# Altium schematic symbol library jlcpcb_2025_04_inductors_extended_0201.schlib: 459 symbols (part 5 of 9)
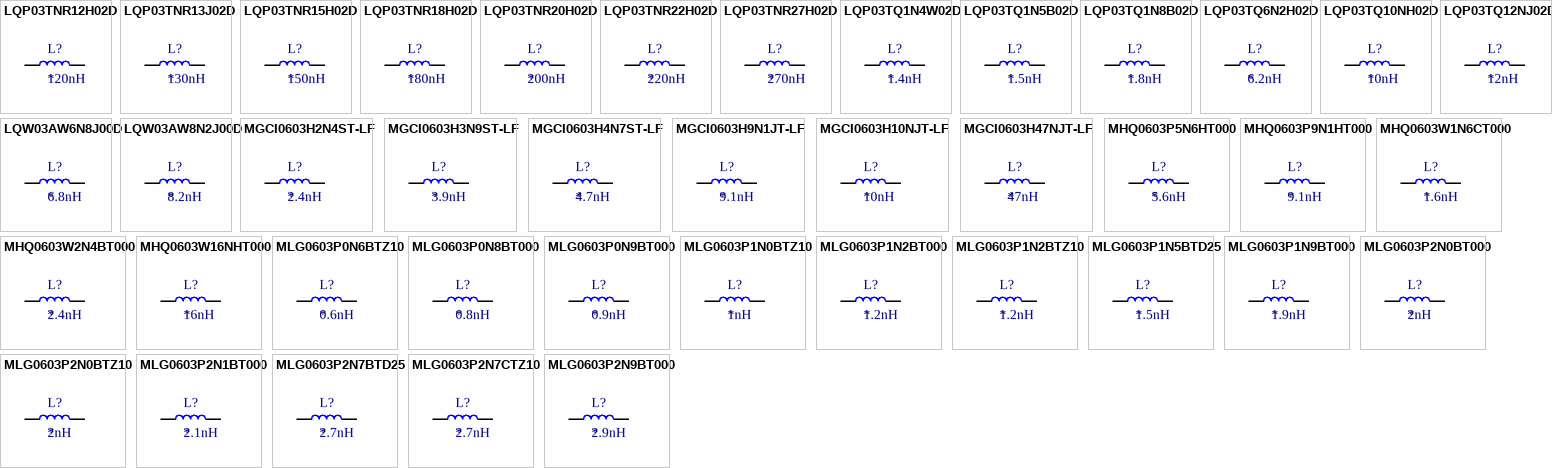
[diagram p15: symbols LQP03TNR12H02D to MLG0603P2N9BT000]

## MGCI0603H3N9ST-LF
designator L?  Inductance: 3.9nH
Inductor, 3.9nH, 450mΩ, 200mA, SMD 0201; Manufacturer: microgate; Manufacturer Part Number: MGCI0603H3N9ST-LF; Package Size: 0201; JLCPCB Basic Part: No; JLCPCB Part Number: C280973; Supplier 1: LCSC; Category: Inductors; Supplier Part Number 1: C280973; Rated Current: 200mA; DC Resistance: 450mΩ; RoHS: Yes; ComponentLink1Description: Datasheet; ComponentLink1URL: https://wmsc.lcsc.com/wmsc/upload/file/pdf/v2/lcsc/2304140030_microgate-MGCI0603H3N9ST-LF_C280973.pdf; ComponentLink2Description: JLCPCB Part URL; ComponentLink2URL: https://jlcpcb.com/partdetail/C280973; ComponentLink3Description: LCSC Part URL; ComponentLink3URL: https://lcsc.com/product-detail/Inductors-SMD_microgate-microgate-MGCI0603H3N9ST-LF_C280973.html
footprint IND-0201 (0201 (0603M) Inductor)
pins: 1, 2

## MGCI0603H4N7ST-LF
designator L?  Inductance: 4.7nH
Inductor, 4.7nH, SMD 0201; Manufacturer: microgate; Manufacturer Part Number: MGCI0603H4N7ST-LF; Package Size: 0201; JLCPCB Basic Part: No; JLCPCB Part Number: C280974; Supplier 1: LCSC; Category: Inductors; Supplier Part Number 1: C280974; RoHS: Yes; ComponentLink1Description: Datasheet; ComponentLink1URL: https://wmsc.lcsc.com/wmsc/upload/file/pdf/v2/lcsc/2304140030_microgate-MGCI0603H4N7ST-LF_C280974.pdf; ComponentLink2Description: JLCPCB Part URL; ComponentLink2URL: https://jlcpcb.com/partdetail/C280974; ComponentLink3Description: LCSC Part URL; ComponentLink3URL: https://lcsc.com/product-detail/Inductors-SMD_microgate-microgate-MGCI0603H4N7ST-LF_C280974.html
footprint IND-0201 (0201 (0603M) Inductor)
pins: 1, 2

## MGCI0603H9N1JT-LF
designator L?  Inductance: 9.1nH
Inductor, 9.1nH, ±5%, 800mΩ, 200mA, SMD 0201; Manufacturer: microgate; Manufacturer Part Number: MGCI0603H9N1JT-LF; Package Size: 0201; JLCPCB Basic Part: No; JLCPCB Part Number: C310869; Supplier 1: LCSC; Category: Inductors; Supplier Part Number 1: C310869; Tolerance: ±5%; Rated Current: 200mA; DC Resistance: 800mΩ; RoHS: Yes; ComponentLink1Description: Datasheet; ComponentLink1URL: https://wmsc.lcsc.com/wmsc/upload/file/pdf/v2/lcsc/2304140030_microgate-MGCI0603H9N1JT-LF_C310869.pdf; ComponentLink2Description: JLCPCB Part URL; ComponentLink2URL: https://jlcpcb.com/partdetail/C310869; ComponentLink3Description: LCSC Part URL; ComponentLink3URL: https://lcsc.com/product-detail/Inductors-SMD_microgate-microgate-MGCI0603H9N1JT-LF_C310869.html
footprint IND-0201 (0201 (0603M) Inductor)
pins: 1, 2

## MGCI0603H10NJT-LF
designator L?  Inductance: 10nH
Inductor, 10nH, ±5%, 800mΩ, 200mA, SMD 0201; Manufacturer: microgate; Manufacturer Part Number: MGCI0603H10NJT-LF; Package Size: 0201; JLCPCB Basic Part: No; JLCPCB Part Number: C486322; Supplier 1: LCSC; Category: Inductors; Supplier Part Number 1: C486322; Tolerance: ±5%; Rated Current: 200mA; DC Resistance: 800mΩ; RoHS: Yes; ComponentLink1Description: Datasheet; ComponentLink1URL: https://wmsc.lcsc.com/wmsc/upload/file/pdf/v2/lcsc/2304140030_microgate-MGCI0603H10NJT-LF_C486322.pdf; ComponentLink2Description: JLCPCB Part URL; ComponentLink2URL: https://jlcpcb.com/partdetail/C486322; ComponentLink3Description: LCSC Part URL; ComponentLink3URL: https://lcsc.com/product-detail/Inductors-SMD_microgate-microgate-MGCI0603H10NJT-LF_C486322.html
footprint IND-0201 (0201 (0603M) Inductor)
pins: 1, 2

## MGCI0603H47NJT-LF
designator L?  Inductance: 47nH
Inductor, 47nH, ±5%, 3.6Ω, 50mA, SMD 0201; Manufacturer: microgate; Manufacturer Part Number: MGCI0603H47NJT-LF; Package Size: 0201; JLCPCB Basic Part: No; JLCPCB Part Number: C310861; Supplier 1: LCSC; Category: Inductors; Supplier Part Number 1: C310861; Tolerance: ±5%; Rated Current: 50mA; DC Resistance: 3.6Ω; RoHS: Yes; ComponentLink1Description: Datasheet; ComponentLink1URL: https://wmsc.lcsc.com/wmsc/upload/file/pdf/v2/lcsc/2304140030_microgate-MGCI0603H47NJT-LF_C310861.pdf; ComponentLink2Description: JLCPCB Part URL; ComponentLink2URL: https://jlcpcb.com/partdetail/C310861; ComponentLink3Description: LCSC Part URL; ComponentLink3URL: https://lcsc.com/product-detail/Inductors-SMD_microgate-microgate-MGCI0603H47NJT-LF_C310861.html
footprint IND-0201 (0201 (0603M) Inductor)
pins: 1, 2

## MHQ0603P5N6HT000
designator L?  Inductance: 5.6nH
Inductor, 5.6nH, ±3%, 290mΩ, 350mA, SMD 0201; Manufacturer: TDK; Manufacturer Part Number: MHQ0603P5N6HT000; Self-Resonant Frequency: 5GHz; Q Factor: 16@500MHz; Package Size: 0201; JLCPCB Basic Part: No; JLCPCB Part Number: C2683197; Supplier 1: LCSC; Category: Inductors; Supplier Part Number 1: C2683197; Tolerance: ±3%; Rated Current: 350mA; DC Resistance: 290mΩ; RoHS: Yes; ComponentLink1Description: Datasheet; ComponentLink1URL: https://wmsc.lcsc.com/wmsc/upload/file/pdf/v2/lcsc/2106070403_TDK-MHQ0603P5N6HT000_C2683197.pdf; ComponentLink2Description: JLCPCB Part URL; ComponentLink2URL: https://jlcpcb.com/partdetail/C2683197; ComponentLink3Description: LCSC Part URL; ComponentLink3URL: https://lcsc.com/product-detail/Inductors-SMD_TDK-TDK-MHQ0603P5N6HT000_C2683197.html
footprint IND-0201 (0201 (0603M) Inductor)
pins: 1, 2

## MHQ0603P9N1HT000
designator L?  Inductance: 9.1nH
Inductor, 9.1nH, ±3%, 620mΩ, 250mA, SMD 0201; Manufacturer: TDK; Manufacturer Part Number: MHQ0603P9N1HT000; Self-Resonant Frequency: 3.8GHz; Q Factor: 16@500MHz; Package Size: 0201; JLCPCB Basic Part: No; JLCPCB Part Number: C2044892; Supplier 1: LCSC; Category: Inductors; Supplier Part Number 1: C2044892; Tolerance: ±3%; Rated Current: 250mA; DC Resistance: 620mΩ; RoHS: Yes; ComponentLink1Description: Datasheet; ComponentLink1URL: https://wmsc.lcsc.com/wmsc/upload/file/pdf/v2/lcsc/2304140030_TDK-MHQ0603P9N1HT000_C2044892.pdf; ComponentLink2Description: JLCPCB Part URL; ComponentLink2URL: https://jlcpcb.com/partdetail/C2044892; ComponentLink3Description: LCSC Part URL; ComponentLink3URL: https://lcsc.com/product-detail/Inductors-SMD_TDK-TDK-MHQ0603P9N1HT000_C2044892.html
footprint IND-0201 (0201 (0603M) Inductor)
pins: 1, 2

## MHQ0603W1N6CT000
designator L?  Inductance: 1.6nH
Inductor, 1.6nH, SMD 0201; Manufacturer: TDK; Manufacturer Part Number: MHQ0603W1N6CT000; Package Size: 0201; JLCPCB Basic Part: No; JLCPCB Part Number: C413905; Supplier 1: LCSC; Category: Inductors; Supplier Part Number 1: C413905; RoHS: Yes; ComponentLink1Description: Datasheet; ComponentLink1URL: https://wmsc.lcsc.com/wmsc/upload/file/pdf/v2/lcsc/2304140030_TDK-MHQ0603W1N6CT000_C413905.pdf; ComponentLink2Description: JLCPCB Part URL; ComponentLink2URL: https://jlcpcb.com/partdetail/C413905; ComponentLink3Description: LCSC Part URL; ComponentLink3URL: https://lcsc.com/product-detail/Inductors-SMD_TDK-TDK-MHQ0603W1N6CT000_C413905.html
footprint IND-0201 (0201 (0603M) Inductor)
pins: 1, 2

## MHQ0603W2N4BT000
designator L?  Inductance: 2.4nH
Inductor, 2.4nH, 190mΩ, 450mA, SMD 0201; Manufacturer: TDK; Manufacturer Part Number: MHQ0603W2N4BT000; Package Size: 0201; JLCPCB Basic Part: No; JLCPCB Part Number: C432996; Supplier 1: LCSC; Category: Inductors; Supplier Part Number 1: C432996; Rated Current: 450mA; DC Resistance: 190mΩ; RoHS: Yes; ComponentLink1Description: Datasheet; ComponentLink1URL: https://wmsc.lcsc.com/wmsc/upload/file/pdf/v2/lcsc/2304140030_TDK-MHQ0603W2N4BT000_C432996.pdf; ComponentLink2Description: JLCPCB Part URL; ComponentLink2URL: https://jlcpcb.com/partdetail/C432996; ComponentLink3Description: LCSC Part URL; ComponentLink3URL: https://lcsc.com/product-detail/Inductors-SMD_TDK-TDK-MHQ0603W2N4BT000_C432996.html
footprint IND-0201 (0201 (0603M) Inductor)
pins: 1, 2

## MHQ0603W16NHT000
designator L?  Inductance: 16nH
Inductor, 16nH, ±3%, 1.21Ω, 180mA, SMD 0201; Manufacturer: TDK; Manufacturer Part Number: MHQ0603W16NHT000; Package Size: 0201; JLCPCB Basic Part: No; JLCPCB Part Number: C432987; Supplier 1: LCSC; Category: Inductors; Supplier Part Number 1: C432987; Tolerance: ±3%; Rated Current: 180mA; DC Resistance: 1.21Ω; RoHS: Yes; ComponentLink1Description: Datasheet; ComponentLink1URL: https://wmsc.lcsc.com/wmsc/upload/file/pdf/v2/lcsc/2304140030_TDK-MHQ0603W16NHT000_C432987.pdf; ComponentLink2Description: JLCPCB Part URL; ComponentLink2URL: https://jlcpcb.com/partdetail/C432987; ComponentLink3Description: LCSC Part URL; ComponentLink3URL: https://lcsc.com/product-detail/Inductors-SMD_TDK-TDK-MHQ0603W16NHT000_C432987.html
footprint IND-0201 (0201 (0603M) Inductor)
pins: 1, 2

## MLG0603P0N6BTZ10
designator L?  Inductance: 0.6nH
Inductor, 0.6nH, 10mΩ, 1A, SMD 0201; Manufacturer: TDK; Manufacturer Part Number: MLG0603P0N6BTZ10; Self-Resonant Frequency: 20GHz; Package Size: 0201; JLCPCB Basic Part: No; JLCPCB Part Number: C275147; Supplier 1: LCSC; Category: Inductors; Supplier Part Number 1: C275147; Rated Current: 1A; DC Resistance: 10mΩ; RoHS: Yes; ComponentLink1Description: Datasheet; ComponentLink1URL: https://wmsc.lcsc.com/wmsc/upload/file/pdf/v2/lcsc/2304140030_TDK-MLG0603P0N6BTZ10_C275147.pdf; ComponentLink2Description: JLCPCB Part URL; ComponentLink2URL: https://jlcpcb.com/partdetail/C275147; ComponentLink3Description: LCSC Part URL; ComponentLink3URL: https://lcsc.com/product-detail/Inductors-SMD_TDK-TDK-MLG0603P0N6BTZ10_C275147.html
footprint IND-0201 (0201 (0603M) Inductor)
pins: 1, 2

## MLG0603P0N8BT000
designator L?  Inductance: 0.8nH
Inductor, 0.8nH, 20mΩ, 1A, SMD 0201; Manufacturer: TDK; Manufacturer Part Number: MLG0603P0N8BT000; Self-Resonant Frequency: 10GHz; Package Size: 0201; JLCPCB Basic Part: No; JLCPCB Part Number: C433008; Supplier 1: LCSC; Category: Inductors; Supplier Part Number 1: C433008; Rated Current: 1A; DC Resistance: 20mΩ; RoHS: Yes; ComponentLink1Description: Datasheet; ComponentLink1URL: https://wmsc.lcsc.com/wmsc/upload/file/pdf/v2/lcsc/2304140030_TDK-MLG0603P0N8BT000_C433008.pdf; ComponentLink2Description: JLCPCB Part URL; ComponentLink2URL: https://jlcpcb.com/partdetail/C433008; ComponentLink3Description: LCSC Part URL; ComponentLink3URL: https://lcsc.com/product-detail/Inductors-SMD_TDK-TDK-MLG0603P0N8BT000_C433008.html
footprint IND-0201 (0201 (0603M) Inductor)
pins: 1, 2

## MLG0603P0N9BT000
designator L?  Inductance: 0.9nH
Inductor, 0.9nH, 20mΩ, 1A, SMD 0201; Manufacturer: TDK; Manufacturer Part Number: MLG0603P0N9BT000; Self-Resonant Frequency: 20GHz; Package Size: 0201; JLCPCB Basic Part: No; JLCPCB Part Number: C415330; Supplier 1: LCSC; Category: Inductors; Supplier Part Number 1: C415330; Rated Current: 1A; DC Resistance: 20mΩ; RoHS: Yes; ComponentLink1Description: Datasheet; ComponentLink1URL: https://wmsc.lcsc.com/wmsc/upload/file/pdf/v2/lcsc/2304140030_TDK-MLG0603P0N9BT000_C415330.pdf; ComponentLink2Description: JLCPCB Part URL; ComponentLink2URL: https://jlcpcb.com/partdetail/C415330; ComponentLink3Description: LCSC Part URL; ComponentLink3URL: https://lcsc.com/product-detail/Inductors-SMD_TDK-TDK-MLG0603P0N9BT000_C415330.html
footprint IND-0201 (0201 (0603M) Inductor)
pins: 1, 2

## MLG0603P1N0BTZ10
designator L?  Inductance: 1nH
Inductor, 1nH, 20mΩ, 1A, SMD 0201; Manufacturer: TDK; Manufacturer Part Number: MLG0603P1N0BTZ10; Self-Resonant Frequency: 20GHz; Q Factor: 14@500MHz; Package Size: 0201; JLCPCB Basic Part: No; JLCPCB Part Number: C275160; Supplier 1: LCSC; Category: Inductors; Supplier Part Number 1: C275160; Rated Current: 1A; DC Resistance: 20mΩ; RoHS: Yes; ComponentLink1Description: Datasheet; ComponentLink1URL: https://wmsc.lcsc.com/wmsc/upload/file/pdf/v2/lcsc/2304140030_TDK-MLG0603P1N0BTZ10_C275160.pdf; ComponentLink2Description: JLCPCB Part URL; ComponentLink2URL: https://jlcpcb.com/partdetail/C275160; ComponentLink3Description: LCSC Part URL; ComponentLink3URL: https://lcsc.com/product-detail/Inductors-SMD_TDK-TDK-MLG0603P1N0BTZ10_C275160.html
footprint IND-0201 (0201 (0603M) Inductor)
pins: 1, 2

## MLG0603P1N2BT000
designator L?  Inductance: 1.2nH
Inductor, 1.2nH, 40mΩ, 800mA, SMD 0201; Manufacturer: TDK; Manufacturer Part Number: MLG0603P1N2BT000; Self-Resonant Frequency: 10GHz; Q Factor: 14@500MHz; Package Size: 0201; JLCPCB Basic Part: No; JLCPCB Part Number: C307706; Supplier 1: LCSC; Category: Inductors; Supplier Part Number 1: C307706; Rated Current: 800mA; DC Resistance: 40mΩ; RoHS: Yes; ComponentLink1Description: Datasheet; ComponentLink1URL: https://wmsc.lcsc.com/wmsc/upload/file/pdf/v2/lcsc/2401221239_TDK-MLG0603P1N2BT000_C307706.pdf; ComponentLink2Description: JLCPCB Part URL; ComponentLink2URL: https://jlcpcb.com/partdetail/C307706; ComponentLink3Description: LCSC Part URL; ComponentLink3URL: https://lcsc.com/product-detail/Inductors-SMD_TDK-TDK-MLG0603P1N2BT000_C307706.html
footprint IND-0201 (0201 (0603M) Inductor)
pins: 1, 2

## MLG0603P1N2BTZ10
designator L?  Inductance: 1.2nH
Inductor, 1.2nH, 40mΩ, 800mA, SMD 0201; Manufacturer: TDK; Manufacturer Part Number: MLG0603P1N2BTZ10; Self-Resonant Frequency: 16GHz; Q Factor: 14@500MHz; Package Size: 0201; JLCPCB Basic Part: No; JLCPCB Part Number: C275163; Supplier 1: LCSC; Category: Inductors; Supplier Part Number 1: C275163; Rated Current: 800mA; DC Resistance: 40mΩ; RoHS: Yes; ComponentLink1Description: Datasheet; ComponentLink1URL: https://wmsc.lcsc.com/wmsc/upload/file/pdf/v2/lcsc/2304140030_TDK-MLG0603P1N2BTZ10_C275163.pdf; ComponentLink2Description: JLCPCB Part URL; ComponentLink2URL: https://jlcpcb.com/partdetail/C275163; ComponentLink3Description: LCSC Part URL; ComponentLink3URL: https://lcsc.com/product-detail/Inductors-SMD_TDK-TDK-MLG0603P1N2BTZ10_C275163.html
footprint IND-0201 (0201 (0603M) Inductor)
pins: 1, 2

## MLG0603P1N5BTD25
designator L?  Inductance: 1.5nH
Inductor, 1.5nH, 30mΩ, 800mA, SMD 0201; Manufacturer: TDK; Manufacturer Part Number: MLG0603P1N5BTD25; Self-Resonant Frequency: 10GHz; Q Factor: 14@500MHz; Package Size: 0201; JLCPCB Basic Part: No; JLCPCB Part Number: C404541; Supplier 1: LCSC; Category: Inductors; Supplier Part Number 1: C404541; Rated Current: 800mA; DC Resistance: 30mΩ; RoHS: Yes; ComponentLink1Description: Datasheet; ComponentLink1URL: https://wmsc.lcsc.com/wmsc/upload/file/pdf/v2/lcsc/2304140030_TDK-MLG0603P1N5BTD25_C404541.pdf; ComponentLink2Description: JLCPCB Part URL; ComponentLink2URL: https://jlcpcb.com/partdetail/C404541; ComponentLink3Description: LCSC Part URL; ComponentLink3URL: https://lcsc.com/product-detail/Inductors-SMD_TDK-TDK-MLG0603P1N5BTD25_C404541.html
footprint IND-0201 (0201 (0603M) Inductor)
pins: 1, 2

## MLG0603P1N9BT000
designator L?  Inductance: 1.9nH
Inductor, 1.9nH, 40mΩ, 600mA, SMD 0201; Manufacturer: TDK; Manufacturer Part Number: MLG0603P1N9BT000; Self-Resonant Frequency: 10.9GHz; Q Factor: 14@500MHz; Package Size: 0201; JLCPCB Basic Part: No; JLCPCB Part Number: C275173; Supplier 1: LCSC; Category: Inductors; Supplier Part Number 1: C275173; Rated Current: 600mA; DC Resistance: 40mΩ; RoHS: Yes; ComponentLink1Description: Datasheet; ComponentLink1URL: https://wmsc.lcsc.com/wmsc/upload/file/pdf/v2/lcsc/2304140030_TDK-MLG0603P1N9BT000_C275173.pdf; ComponentLink2Description: JLCPCB Part URL; ComponentLink2URL: https://jlcpcb.com/partdetail/C275173; ComponentLink3Description: LCSC Part URL; ComponentLink3URL: https://lcsc.com/product-detail/Inductors-SMD_TDK-TDK-MLG0603P1N9BT000_C275173.html
footprint IND-0201 (0201 (0603M) Inductor)
pins: 1, 2

## MLG0603P2N0BT000
designator L?  Inductance: 2nH
Inductor, 2nH, 30mΩ, 600mA, SMD 0201; Manufacturer: TDK; Manufacturer Part Number: MLG0603P2N0BT000; Self-Resonant Frequency: 10.1GHz; Q Factor: 14@500MHz; Package Size: 0201; JLCPCB Basic Part: No; JLCPCB Part Number: C307709; Supplier 1: LCSC; Category: Inductors; Supplier Part Number 1: C307709; Rated Current: 600mA; DC Resistance: 30mΩ; RoHS: Yes; ComponentLink1Description: Datasheet; ComponentLink1URL: https://wmsc.lcsc.com/wmsc/upload/file/pdf/v2/lcsc/2304140030_TDK-MLG0603P2N0BT000_C307709.pdf; ComponentLink2Description: JLCPCB Part URL; ComponentLink2URL: https://jlcpcb.com/partdetail/C307709; ComponentLink3Description: LCSC Part URL; ComponentLink3URL: https://lcsc.com/product-detail/Inductors-SMD_TDK-TDK-MLG0603P2N0BT000_C307709.html
footprint IND-0201 (0201 (0603M) Inductor)
pins: 1, 2

## MLG0603P2N0BTZ10
designator L?  Inductance: 2nH
Inductor, 2nH, 30mΩ, 600mA, SMD 0201; Manufacturer: TDK; Manufacturer Part Number: MLG0603P2N0BTZ10; Self-Resonant Frequency: 10.1GHz; Q Factor: 14@500MHz; Package Size: 0201; JLCPCB Basic Part: No; JLCPCB Part Number: C275181; Supplier 1: LCSC; Category: Inductors; Supplier Part Number 1: C275181; Rated Current: 600mA; DC Resistance: 30mΩ; RoHS: Yes; ComponentLink1Description: Datasheet; ComponentLink1URL: https://wmsc.lcsc.com/wmsc/upload/file/pdf/v2/lcsc/2304140030_TDK-MLG0603P2N0BTZ10_C275181.pdf; ComponentLink2Description: JLCPCB Part URL; ComponentLink2URL: https://jlcpcb.com/partdetail/C275181; ComponentLink3Description: LCSC Part URL; ComponentLink3URL: https://lcsc.com/product-detail/Inductors-SMD_TDK-TDK-MLG0603P2N0BTZ10_C275181.html
footprint IND-0201 (0201 (0603M) Inductor)
pins: 1, 2

## MLG0603P2N1BT000
designator L?  Inductance: 2.1nH
Inductor, 2.1nH, 50mΩ, 600mA, SMD 0201; Manufacturer: TDK; Manufacturer Part Number: MLG0603P2N1BT000; Self-Resonant Frequency: 9.8GHz; Q Factor: 14@500MHz; Package Size: 0201; JLCPCB Basic Part: No; JLCPCB Part Number: C275183; Supplier 1: LCSC; Category: Inductors; Supplier Part Number 1: C275183; Rated Current: 600mA; DC Resistance: 50mΩ; RoHS: Yes; ComponentLink1Description: Datasheet; ComponentLink1URL: https://wmsc.lcsc.com/wmsc/upload/file/pdf/v2/lcsc/2304140030_TDK-MLG0603P2N1BT000_C275183.pdf; ComponentLink2Description: JLCPCB Part URL; ComponentLink2URL: https://jlcpcb.com/partdetail/C275183; ComponentLink3Description: LCSC Part URL; ComponentLink3URL: https://lcsc.com/product-detail/Inductors-SMD_TDK-TDK-MLG0603P2N1BT000_C275183.html
footprint IND-0201 (0201 (0603M) Inductor)
pins: 1, 2

## MLG0603P2N7BTD25
designator L?  Inductance: 2.7nH
Inductor, 2.7nH, 140mΩ, 500mA, SMD 0201; Manufacturer: TDK; Manufacturer Part Number: MLG0603P2N7BTD25; Self-Resonant Frequency: 7.5GHz; Q Factor: 14@500MHz; Package Size: 0201; JLCPCB Basic Part: No; JLCPCB Part Number: C404553; Supplier 1: LCSC; Category: Inductors; Supplier Part Number 1: C404553; Rated Current: 500mA; DC Resistance: 140mΩ; RoHS: Yes; ComponentLink1Description: Datasheet; ComponentLink1URL: https://wmsc.lcsc.com/wmsc/upload/file/pdf/v2/lcsc/2304140030_TDK-MLG0603P2N7BTD25_C404553.pdf; ComponentLink2Description: JLCPCB Part URL; ComponentLink2URL: https://jlcpcb.com/partdetail/C404553; ComponentLink3Description: LCSC Part URL; ComponentLink3URL: https://lcsc.com/product-detail/Inductors-SMD_TDK-TDK-MLG0603P2N7BTD25_C404553.html
footprint IND-0201 (0201 (0603M) Inductor)
pins: 1, 2

## MLG0603P2N7CTZ10
designator L?  Inductance: 2.7nH
Inductor, 2.7nH, SMD 0201; Manufacturer: TDK; Manufacturer Part Number: MLG0603P2N7CTZ10; Package Size: 0201; JLCPCB Basic Part: No; JLCPCB Part Number: C275193; Supplier 1: LCSC; Category: Inductors; Supplier Part Number 1: C275193; RoHS: Yes; ComponentLink1Description: Datasheet; ComponentLink1URL: https://wmsc.lcsc.com/wmsc/upload/file/pdf/v2/lcsc/2109091030_TDK-MLG0603P2N7CTZ10_C275193.pdf; ComponentLink2Description: JLCPCB Part URL; ComponentLink2URL: https://jlcpcb.com/partdetail/C275193; ComponentLink3Description: LCSC Part URL; ComponentLink3URL: https://lcsc.com/product-detail/Inductors-SMD_TDK-TDK-MLG0603P2N7CTZ10_C275193.html
footprint IND-0201 (0201 (0603M) Inductor)
pins: 1, 2

## MLG0603P2N9BT000
designator L?  Inductance: 2.9nH
Inductor, 2.9nH, 100mΩ, 500mA, SMD 0201; Manufacturer: TDK; Manufacturer Part Number: MLG0603P2N9BT000; Self-Resonant Frequency: 9.2GHz; Q Factor: 14@500MHz; Package Size: 0201; JLCPCB Basic Part: No; JLCPCB Part Number: C92034; Supplier 1: LCSC; Category: Inductors; Supplier Part Number 1: C92034; Rated Current: 500mA; DC Resistance: 100mΩ; RoHS: Yes; ComponentLink1Description: Datasheet; ComponentLink1URL: https://wmsc.lcsc.com/wmsc/upload/file/pdf/v2/lcsc/2304140030_TDK-MLG0603P2N9BT000_C92034.pdf; ComponentLink2Description: JLCPCB Part URL; ComponentLink2URL: https://jlcpcb.com/partdetail/C92034; ComponentLink3Description: LCSC Part URL; ComponentLink3URL: https://lcsc.com/product-detail/Inductors-SMD_TDK-TDK-MLG0603P2N9BT000_C92034.html
footprint IND-0201 (0201 (0603M) Inductor)
pins: 1, 2

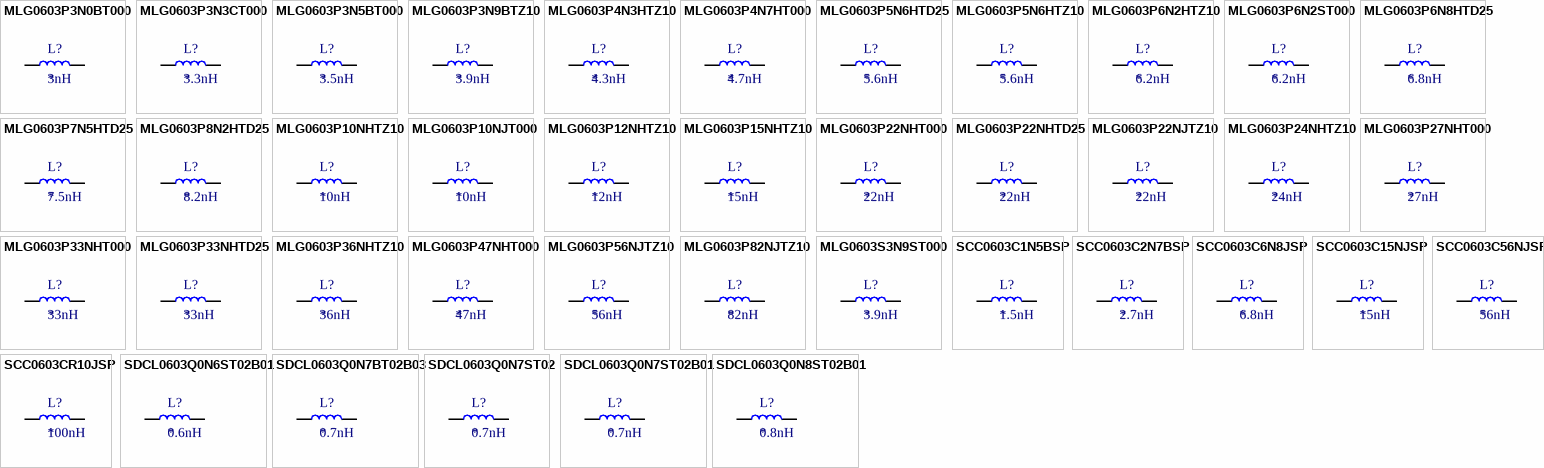
[diagram p6: symbols MLG0603P3N0BT000 to SDCL0603Q0N8ST02B01]

## MLG0603P3N0BT000
designator L?  Inductance: 3nH
Inductor, 3nH, 140mΩ, 450mA, SMD 0201; Manufacturer: TDK; Manufacturer Part Number: MLG0603P3N0BT000; Self-Resonant Frequency: 7.5GHz; Q Factor: 14@500MHz; Package Size: 0201; JLCPCB Basic Part: No; JLCPCB Part Number: C87524; Supplier 1: LCSC; Category: Inductors; Supplier Part Number 1: C87524; Rated Current: 450mA; DC Resistance: 140mΩ; RoHS: Yes; ComponentLink1Description: Datasheet; ComponentLink1URL: https://wmsc.lcsc.com/wmsc/upload/file/pdf/v2/lcsc/2304140030_TDK-MLG0603P3N0BT000_C87524.pdf; ComponentLink2Description: JLCPCB Part URL; ComponentLink2URL: https://jlcpcb.com/partdetail/C87524; ComponentLink3Description: LCSC Part URL; ComponentLink3URL: https://lcsc.com/product-detail/Inductors-SMD_TDK-TDK-MLG0603P3N0BT000_C87524.html
footprint IND-0201 (0201 (0603M) Inductor)
pins: 1, 2

## MLG0603P3N3CT000
designator L?  Inductance: 3.3nH
Inductor, 3.3nH, 130mΩ, 450mA, SMD 0201; Manufacturer: TDK; Manufacturer Part Number: MLG0603P3N3CT000; Self-Resonant Frequency: 7.5GHz; Q Factor: 14@500MHz; Package Size: 0201; JLCPCB Basic Part: No; JLCPCB Part Number: C76755; Supplier 1: LCSC; Category: Inductors; Supplier Part Number 1: C76755; Rated Current: 450mA; DC Resistance: 130mΩ; RoHS: Yes; ComponentLink1Description: Datasheet; ComponentLink1URL: https://wmsc.lcsc.com/wmsc/upload/file/pdf/v2/lcsc/1810111722_TDK-MLG0603P3N3CT000_C76755.pdf; ComponentLink2Description: JLCPCB Part URL; ComponentLink2URL: https://jlcpcb.com/partdetail/C76755; ComponentLink3Description: LCSC Part URL; ComponentLink3URL: https://lcsc.com/product-detail/Inductors-SMD_TDK-TDK-MLG0603P3N3CT000_C76755.html
footprint IND-0201 (0201 (0603M) Inductor)
pins: 1, 2

## MLG0603P3N5BT000
designator L?  Inductance: 3.5nH
Inductor, 3.5nH, 120mΩ, 450mA, SMD 0201; Manufacturer: TDK; Manufacturer Part Number: MLG0603P3N5BT000; Self-Resonant Frequency: 6.5GHz; Q Factor: 14@500MHz; Package Size: 0201; JLCPCB Basic Part: No; JLCPCB Part Number: C433018; Supplier 1: LCSC; Category: Inductors; Supplier Part Number 1: C433018; Rated Current: 450mA; DC Resistance: 120mΩ; RoHS: Yes; ComponentLink1Description: Datasheet; ComponentLink1URL: https://wmsc.lcsc.com/wmsc/upload/file/pdf/v2/lcsc/2304140030_TDK-MLG0603P3N5BT000_C433018.pdf; ComponentLink2Description: JLCPCB Part URL; ComponentLink2URL: https://jlcpcb.com/partdetail/C433018; ComponentLink3Description: LCSC Part URL; ComponentLink3URL: https://lcsc.com/product-detail/Inductors-SMD_TDK-TDK-MLG0603P3N5BT000_C433018.html
footprint IND-0201 (0201 (0603M) Inductor)
pins: 1, 2

## MLG0603P3N9BTZ10
designator L?  Inductance: 3.9nH
Inductor, 3.9nH, 220mΩ, 400mA, SMD 0201; Manufacturer: TDK; Manufacturer Part Number: MLG0603P3N9BTZ10; Self-Resonant Frequency: 7.1GHz; Q Factor: 14@500MHz; Package Size: 0201; JLCPCB Basic Part: No; JLCPCB Part Number: C76756; Supplier 1: LCSC; Category: Inductors; Supplier Part Number 1: C76756; Rated Current: 400mA; DC Resistance: 220mΩ; RoHS: Yes; ComponentLink1Description: Datasheet; ComponentLink2Description: JLCPCB Part URL; ComponentLink2URL: https://jlcpcb.com/partdetail/C76756; ComponentLink3Description: LCSC Part URL; ComponentLink3URL: https://lcsc.com/product-detail/Inductors-SMD_TDK-TDK-MLG0603P3N9BTZ10_C76756.html
footprint IND-0201 (0201 (0603M) Inductor)
pins: 1, 2

## MLG0603P4N3HTZ10
designator L?  Inductance: 4.3nH
Inductor, 4.3nH, ±3%, 240mΩ, 350mA, SMD 0201; Manufacturer: TDK; Manufacturer Part Number: MLG0603P4N3HTZ10; Self-Resonant Frequency: 6.7GHz; Q Factor: 14@500MHz; Package Size: 0201; JLCPCB Basic Part: No; JLCPCB Part Number: C275226; Supplier 1: LCSC; Category: Inductors; Supplier Part Number 1: C275226; Tolerance: ±3%; Rated Current: 350mA; DC Resistance: 240mΩ; RoHS: Yes; ComponentLink1Description: Datasheet; ComponentLink1URL: https://wmsc.lcsc.com/wmsc/upload/file/pdf/v2/lcsc/2304140030_TDK-MLG0603P4N3HTZ10_C275226.pdf; ComponentLink2Description: JLCPCB Part URL; ComponentLink2URL: https://jlcpcb.com/partdetail/C275226; ComponentLink3Description: LCSC Part URL; ComponentLink3URL: https://lcsc.com/product-detail/Inductors-SMD_TDK-TDK-MLG0603P4N3HTZ10_C275226.html
footprint IND-0201 (0201 (0603M) Inductor)
pins: 1, 2

## MLG0603P4N7HT000
designator L?  Inductance: 4.7nH
Inductor, 4.7nH, ±3%, 160mΩ, 350mA, SMD 0201; Manufacturer: TDK; Manufacturer Part Number: MLG0603P4N7HT000; Self-Resonant Frequency: 5.5GHz; Q Factor: 14@500MHz; Package Size: 0201; JLCPCB Basic Part: No; JLCPCB Part Number: C275227; Supplier 1: LCSC; Category: Inductors; Supplier Part Number 1: C275227; Tolerance: ±3%; Rated Current: 350mA; DC Resistance: 160mΩ; RoHS: Yes; ComponentLink1Description: Datasheet; ComponentLink1URL: https://wmsc.lcsc.com/wmsc/upload/file/pdf/v2/lcsc/2304140030_TDK-MLG0603P4N7HT000_C275227.pdf; ComponentLink2Description: JLCPCB Part URL; ComponentLink2URL: https://jlcpcb.com/partdetail/C275227; ComponentLink3Description: LCSC Part URL; ComponentLink3URL: https://lcsc.com/product-detail/Inductors-SMD_TDK-TDK-MLG0603P4N7HT000_C275227.html
footprint IND-0201 (0201 (0603M) Inductor)
pins: 1, 2

## MLG0603P5N6HTD25
designator L?  Inductance: 5.6nH
Inductor, 5.6nH, ±3%, 320mΩ, 350mA, SMD 0201; Manufacturer: TDK; Manufacturer Part Number: MLG0603P5N6HTD25; Self-Resonant Frequency: 4GHz; Q Factor: 14@500MHz; Package Size: 0201; JLCPCB Basic Part: No; JLCPCB Part Number: C404572; Supplier 1: LCSC; Category: Inductors; Supplier Part Number 1: C404572; Tolerance: ±3%; Rated Current: 350mA; DC Resistance: 320mΩ; RoHS: Yes; ComponentLink1Description: Datasheet; ComponentLink1URL: https://wmsc.lcsc.com/wmsc/upload/file/pdf/v2/lcsc/2304140030_TDK-MLG0603P5N6HTD25_C404572.pdf; ComponentLink2Description: JLCPCB Part URL; ComponentLink2URL: https://jlcpcb.com/partdetail/C404572; ComponentLink3Description: LCSC Part URL; ComponentLink3URL: https://lcsc.com/product-detail/Inductors-SMD_TDK-TDK-MLG0603P5N6HTD25_C404572.html
footprint IND-0201 (0201 (0603M) Inductor)
pins: 1, 2

## MLG0603P5N6HTZ10
designator L?  Inductance: 5.6nH
Inductor, 5.6nH, ±3%, 320mΩ, 350mA, SMD 0201; Manufacturer: TDK; Manufacturer Part Number: MLG0603P5N6HTZ10; Self-Resonant Frequency: 5.3GHz; Q Factor: 14@500MHz; Package Size: 0201; JLCPCB Basic Part: No; JLCPCB Part Number: C275235; Supplier 1: LCSC; Category: Inductors; Supplier Part Number 1: C275235; Tolerance: ±3%; Rated Current: 350mA; DC Resistance: 320mΩ; RoHS: Yes; ComponentLink1Description: Datasheet; ComponentLink1URL: https://wmsc.lcsc.com/wmsc/upload/file/pdf/v2/lcsc/2304140030_TDK-MLG0603P5N6HTZ10_C275235.pdf; ComponentLink2Description: JLCPCB Part URL; ComponentLink2URL: https://jlcpcb.com/partdetail/C275235; ComponentLink3Description: LCSC Part URL; ComponentLink3URL: https://lcsc.com/product-detail/Inductors-SMD_TDK-TDK-MLG0603P5N6HTZ10_C275235.html
footprint IND-0201 (0201 (0603M) Inductor)
pins: 1, 2

## MLG0603P6N2HTZ10
designator L?  Inductance: 6.2nH
Inductor, 6.2nH, ±3%, 590mΩ, 300mA, SMD 0201; Manufacturer: TDK; Manufacturer Part Number: MLG0603P6N2HTZ10; Self-Resonant Frequency: 6.3GHz; Q Factor: 14@500MHz; Package Size: 0201; JLCPCB Basic Part: No; JLCPCB Part Number: C275244; Supplier 1: LCSC; Category: Inductors; Supplier Part Number 1: C275244; Tolerance: ±3%; Rated Current: 300mA; DC Resistance: 590mΩ; RoHS: Yes; ComponentLink1Description: Datasheet; ComponentLink1URL: https://wmsc.lcsc.com/wmsc/upload/file/pdf/v2/lcsc/2304140030_TDK-MLG0603P6N2HTZ10_C275244.pdf; ComponentLink2Description: JLCPCB Part URL; ComponentLink2URL: https://jlcpcb.com/partdetail/C275244; ComponentLink3Description: LCSC Part URL; ComponentLink3URL: https://lcsc.com/product-detail/Inductors-SMD_TDK-TDK-MLG0603P6N2HTZ10_C275244.html
footprint IND-0201 (0201 (0603M) Inductor)
pins: 1, 2

## MLG0603P6N2ST000
designator L?  Inductance: 6.2nH
Inductor, 6.2nH, 590mΩ, 300mA, SMD 0201; Manufacturer: TDK; Manufacturer Part Number: MLG0603P6N2ST000; Self-Resonant Frequency: 4GHz; Q Factor: 14@500MHz; Package Size: 0201; JLCPCB Basic Part: No; JLCPCB Part Number: C433022; Supplier 1: LCSC; Category: Inductors; Supplier Part Number 1: C433022; Rated Current: 300mA; DC Resistance: 590mΩ; RoHS: Yes; ComponentLink1Description: Datasheet; ComponentLink1URL: https://wmsc.lcsc.com/wmsc/upload/file/pdf/v2/lcsc/1912111437_TDK-MLG0603P6N2ST000_C433022.pdf; ComponentLink2Description: JLCPCB Part URL; ComponentLink2URL: https://jlcpcb.com/partdetail/C433022; ComponentLink3Description: LCSC Part URL; ComponentLink3URL: https://lcsc.com/product-detail/Inductors-SMD_TDK-TDK-MLG0603P6N2ST000_C433022.html
footprint IND-0201 (0201 (0603M) Inductor)
pins: 1, 2

## MLG0603P6N8HTD25
designator L?  Inductance: 6.8nH
Inductor, 6.8nH, ±3%, 620mΩ, 300mA, SMD 0201; Manufacturer: TDK; Manufacturer Part Number: MLG0603P6N8HTD25; Self-Resonant Frequency: 4GHz; Q Factor: 14@500MHz; Package Size: 0201; JLCPCB Basic Part: No; JLCPCB Part Number: C404574; Supplier 1: LCSC; Category: Inductors; Supplier Part Number 1: C404574; Tolerance: ±3%; Rated Current: 300mA; DC Resistance: 620mΩ; RoHS: Yes; ComponentLink1Description: Datasheet; ComponentLink1URL: https://wmsc.lcsc.com/wmsc/upload/file/pdf/v2/lcsc/2304140030_TDK-MLG0603P6N8HTD25_C404574.pdf; ComponentLink2Description: JLCPCB Part URL; ComponentLink2URL: https://jlcpcb.com/partdetail/C404574; ComponentLink3Description: LCSC Part URL; ComponentLink3URL: https://lcsc.com/product-detail/Inductors-SMD_TDK-TDK-MLG0603P6N8HTD25_C404574.html
footprint IND-0201 (0201 (0603M) Inductor)
pins: 1, 2

## MLG0603P7N5HTD25
designator L?  Inductance: 7.5nH
Inductor, 7.5nH, ±3%, 700mΩ, 300mA, SMD 0201; Manufacturer: TDK; Manufacturer Part Number: MLG0603P7N5HTD25; Self-Resonant Frequency: 4GHz; Q Factor: 14@500MHz; Package Size: 0201; JLCPCB Basic Part: No; JLCPCB Part Number: C404575; Supplier 1: LCSC; Category: Inductors; Supplier Part Number 1: C404575; Tolerance: ±3%; Rated Current: 300mA; DC Resistance: 700mΩ; RoHS: Yes; ComponentLink1Description: Datasheet; ComponentLink1URL: https://wmsc.lcsc.com/wmsc/upload/file/pdf/v2/lcsc/2304140030_TDK-MLG0603P7N5HTD25_C404575.pdf; ComponentLink2Description: JLCPCB Part URL; ComponentLink2URL: https://jlcpcb.com/partdetail/C404575; ComponentLink3Description: LCSC Part URL; ComponentLink3URL: https://lcsc.com/product-detail/Inductors-SMD_TDK-TDK-MLG0603P7N5HTD25_C404575.html
footprint IND-0201 (0201 (0603M) Inductor)
pins: 1, 2

## MLG0603P8N2HTD25
designator L?  Inductance: 8.2nH
Inductor, 8.2nH, ±3%, 710mΩ, 250mA, SMD 0201; Manufacturer: TDK; Manufacturer Part Number: MLG0603P8N2HTD25; Self-Resonant Frequency: 4GHz; Q Factor: 14@500MHz; Package Size: 0201; JLCPCB Basic Part: No; JLCPCB Part Number: C404576; Supplier 1: LCSC; Category: Inductors; Supplier Part Number 1: C404576; Tolerance: ±3%; Rated Current: 250mA; DC Resistance: 710mΩ; RoHS: Yes; ComponentLink1Description: Datasheet; ComponentLink1URL: https://wmsc.lcsc.com/wmsc/upload/file/pdf/v2/lcsc/2304140030_TDK-MLG0603P8N2HTD25_C404576.pdf; ComponentLink2Description: JLCPCB Part URL; ComponentLink2URL: https://jlcpcb.com/partdetail/C404576; ComponentLink3Description: LCSC Part URL; ComponentLink3URL: https://lcsc.com/product-detail/Inductors-SMD_TDK-TDK-MLG0603P8N2HTD25_C404576.html
footprint IND-0201 (0201 (0603M) Inductor)
pins: 1, 2

## MLG0603P10NHTZ10
designator L?  Inductance: 10nH
Inductor, 10nH, ±3%, 850mΩ, 250mA, SMD 0201; Manufacturer: TDK; Manufacturer Part Number: MLG0603P10NHTZ10; Self-Resonant Frequency: 4.7GHz; Q Factor: 14@500MHz; Package Size: 0201; JLCPCB Basic Part: No; JLCPCB Part Number: C76745; Supplier 1: LCSC; Category: Inductors; Supplier Part Number 1: C76745; Tolerance: ±3%; Rated Current: 250mA; DC Resistance: 850mΩ; RoHS: Yes; ComponentLink1Description: Datasheet; ComponentLink1URL: https://wmsc.lcsc.com/wmsc/upload/file/pdf/v2/lcsc/1810111710_TDK-MLG0603P10NHTZ10_C76745.pdf; ComponentLink2Description: JLCPCB Part URL; ComponentLink2URL: https://jlcpcb.com/partdetail/C76745; ComponentLink3Description: LCSC Part URL; ComponentLink3URL: https://lcsc.com/product-detail/Inductors-SMD_TDK-TDK-MLG0603P10NHTZ10_C76745.html
footprint IND-0201 (0201 (0603M) Inductor)
pins: 1, 2

## MLG0603P10NJT000
designator L?  Inductance: 10nH
Inductor, 10nH, ±5%, 850mΩ, 250mA, SMD 0201; Manufacturer: TDK; Manufacturer Part Number: MLG0603P10NJT000; Self-Resonant Frequency: 4GHz; Q Factor: 14@500MHz; Package Size: 0201; JLCPCB Basic Part: No; JLCPCB Part Number: C76746; Supplier 1: LCSC; Category: Inductors; Supplier Part Number 1: C76746; Tolerance: ±5%; Rated Current: 250mA; DC Resistance: 850mΩ; RoHS: Yes; ComponentLink1Description: Datasheet; ComponentLink1URL: https://wmsc.lcsc.com/wmsc/upload/file/pdf/v2/lcsc/2304140030_TDK-MLG0603P10NJT000_C76746.pdf; ComponentLink2Description: JLCPCB Part URL; ComponentLink2URL: https://jlcpcb.com/partdetail/C76746; ComponentLink3Description: LCSC Part URL; ComponentLink3URL: https://lcsc.com/product-detail/Inductors-SMD_TDK-TDK-MLG0603P10NJT000_C76746.html
footprint IND-0201 (0201 (0603M) Inductor)
pins: 1, 2

## MLG0603P12NHTZ10
designator L?  Inductance: 12nH
Inductor, 12nH, ±3%, 820mΩ, 250mA, SMD 0201; Manufacturer: TDK; Manufacturer Part Number: MLG0603P12NHTZ10; Self-Resonant Frequency: 4.3GHz; Q Factor: 14@500MHz; Package Size: 0201; JLCPCB Basic Part: No; JLCPCB Part Number: C275154; Supplier 1: LCSC; Category: Inductors; Supplier Part Number 1: C275154; Tolerance: ±3%; Rated Current: 250mA; DC Resistance: 820mΩ; RoHS: Yes; ComponentLink1Description: Datasheet; ComponentLink1URL: https://wmsc.lcsc.com/wmsc/upload/file/pdf/v2/lcsc/2304140030_TDK-MLG0603P12NHTZ10_C275154.pdf; ComponentLink2Description: JLCPCB Part URL; ComponentLink2URL: https://jlcpcb.com/partdetail/C275154; ComponentLink3Description: LCSC Part URL; ComponentLink3URL: https://lcsc.com/product-detail/Inductors-SMD_TDK-TDK-MLG0603P12NHTZ10_C275154.html
footprint IND-0201 (0201 (0603M) Inductor)
pins: 1, 2

## MLG0603P15NHTZ10
designator L?  Inductance: 15nH
Inductor, 15nH, ±3%, 940mΩ, 250mA, SMD 0201; Manufacturer: TDK; Manufacturer Part Number: MLG0603P15NHTZ10; Self-Resonant Frequency: 3.7GHz; Q Factor: 14@500MHz; Package Size: 0201; JLCPCB Basic Part: No; JLCPCB Part Number: C275156; Supplier 1: LCSC; Category: Inductors; Supplier Part Number 1: C275156; Tolerance: ±3%; Rated Current: 250mA; DC Resistance: 940mΩ; RoHS: Yes; ComponentLink1Description: Datasheet; ComponentLink1URL: https://wmsc.lcsc.com/wmsc/upload/file/pdf/v2/lcsc/2304140030_TDK-MLG0603P15NHTZ10_C275156.pdf; ComponentLink2Description: JLCPCB Part URL; ComponentLink2URL: https://jlcpcb.com/partdetail/C275156; ComponentLink3Description: LCSC Part URL; ComponentLink3URL: https://lcsc.com/product-detail/Inductors-SMD_TDK-TDK-MLG0603P15NHTZ10_C275156.html
footprint IND-0201 (0201 (0603M) Inductor)
pins: 1, 2

## MLG0603P22NHT000
designator L?  Inductance: 22nH
Inductor, 22nH, ±3%, 1.31Ω, 150mA, SMD 0201; Manufacturer: TDK; Manufacturer Part Number: MLG0603P22NHT000; Self-Resonant Frequency: 2.2GHz; Q Factor: 14@500MHz; Package Size: 0201; JLCPCB Basic Part: No; JLCPCB Part Number: C433015; Supplier 1: LCSC; Category: Inductors; Supplier Part Number 1: C433015; Tolerance: ±3%; Rated Current: 150mA; DC Resistance: 1.31Ω; RoHS: Yes; ComponentLink1Description: Datasheet; ComponentLink1URL: https://wmsc.lcsc.com/wmsc/upload/file/pdf/v2/lcsc/2304140030_TDK-MLG0603P22NHT000_C433015.pdf; ComponentLink2Description: JLCPCB Part URL; ComponentLink2URL: https://jlcpcb.com/partdetail/C433015; ComponentLink3Description: LCSC Part URL; ComponentLink3URL: https://lcsc.com/product-detail/Inductors-SMD_TDK-TDK-MLG0603P22NHT000_C433015.html
footprint IND-0201 (0201 (0603M) Inductor)
pins: 1, 2

## MLG0603P22NHTD25
designator L?  Inductance: 22nH
Inductor, 22nH, ±3%, 1.31Ω, 150mA, SMD 0201; Manufacturer: TDK; Manufacturer Part Number: MLG0603P22NHTD25; Self-Resonant Frequency: 2.2GHz; Q Factor: 14@500MHz; Package Size: 0201; JLCPCB Basic Part: No; JLCPCB Part Number: C404586; Supplier 1: LCSC; Category: Inductors; Supplier Part Number 1: C404586; Tolerance: ±3%; Rated Current: 150mA; DC Resistance: 1.31Ω; RoHS: Yes; ComponentLink1Description: Datasheet; ComponentLink1URL: https://wmsc.lcsc.com/wmsc/upload/file/pdf/v2/lcsc/2304140030_TDK-MLG0603P22NHTD25_C404586.pdf; ComponentLink2Description: JLCPCB Part URL; ComponentLink2URL: https://jlcpcb.com/partdetail/C404586; ComponentLink3Description: LCSC Part URL; ComponentLink3URL: https://lcsc.com/product-detail/Inductors-SMD_TDK-TDK-MLG0603P22NHTD25_C404586.html
footprint IND-0201 (0201 (0603M) Inductor)
pins: 1, 2

## MLG0603P22NJTZ10
designator L?  Inductance: 22nH
Inductor, 22nH, ±5%, 1.31Ω, 150mA, SMD 0201; Manufacturer: TDK; Manufacturer Part Number: MLG0603P22NJTZ10; Self-Resonant Frequency: 2.9GHz; Q Factor: 14@500MHz; Package Size: 0201; JLCPCB Basic Part: No; JLCPCB Part Number: C275177; Supplier 1: LCSC; Category: Inductors; Supplier Part Number 1: C275177; Tolerance: ±5%; Rated Current: 150mA; DC Resistance: 1.31Ω; RoHS: Yes; ComponentLink1Description: Datasheet; ComponentLink1URL: https://wmsc.lcsc.com/wmsc/upload/file/pdf/v2/lcsc/2304140030_TDK-MLG0603P22NJTZ10_C275177.pdf; ComponentLink2Description: JLCPCB Part URL; ComponentLink2URL: https://jlcpcb.com/partdetail/C275177; ComponentLink3Description: LCSC Part URL; ComponentLink3URL: https://lcsc.com/product-detail/Inductors-SMD_TDK-TDK-MLG0603P22NJTZ10_C275177.html
footprint IND-0201 (0201 (0603M) Inductor)
pins: 1, 2

## MLG0603P24NHTZ10
designator L?  Inductance: 24nH
Inductor, 24nH, ±3%, 1.17Ω, 140mA, SMD 0201; Manufacturer: TDK; Manufacturer Part Number: MLG0603P24NHTZ10; Self-Resonant Frequency: 2.9GHz; Q Factor: 14@500MHz; Package Size: 0201; JLCPCB Basic Part: No; JLCPCB Part Number: C275178; Supplier 1: LCSC; Category: Inductors; Supplier Part Number 1: C275178; Tolerance: ±3%; Rated Current: 140mA; DC Resistance: 1.17Ω; RoHS: Yes; ComponentLink1Description: Datasheet; ComponentLink1URL: https://wmsc.lcsc.com/wmsc/upload/file/pdf/v2/lcsc/2304140030_TDK-MLG0603P24NHTZ10_C275178.pdf; ComponentLink2Description: JLCPCB Part URL; ComponentLink2URL: https://jlcpcb.com/partdetail/C275178; ComponentLink3Description: LCSC Part URL; ComponentLink3URL: https://lcsc.com/product-detail/Inductors-SMD_TDK-TDK-MLG0603P24NHTZ10_C275178.html
footprint IND-0201 (0201 (0603M) Inductor)
pins: 1, 2

## MLG0603P27NHT000
designator L?  Inductance: 27nH
Inductor, 27nH, ±3%, 1.45Ω, 140mA, SMD 0201; Manufacturer: TDK; Manufacturer Part Number: MLG0603P27NHT000; Self-Resonant Frequency: 2.2GHz; Q Factor: 14@500MHz; Package Size: 0201; JLCPCB Basic Part: No; JLCPCB Part Number: C433016; Supplier 1: LCSC; Category: Inductors; Supplier Part Number 1: C433016; Tolerance: ±3%; Rated Current: 140mA; DC Resistance: 1.45Ω; RoHS: Yes; ComponentLink1Description: Datasheet; ComponentLink1URL: https://wmsc.lcsc.com/wmsc/upload/file/pdf/v2/lcsc/2304140030_TDK-MLG0603P27NHT000_C433016.pdf; ComponentLink2Description: JLCPCB Part URL; ComponentLink2URL: https://jlcpcb.com/partdetail/C433016; ComponentLink3Description: LCSC Part URL; ComponentLink3URL: https://lcsc.com/product-detail/Inductors-SMD_TDK-TDK-MLG0603P27NHT000_C433016.html
footprint IND-0201 (0201 (0603M) Inductor)
pins: 1, 2

## MLG0603P33NHT000
designator L?  Inductance: 33nH
Inductor, 33nH, ±3%, 1.55Ω, 130mA, SMD 0201; Manufacturer: TDK; Manufacturer Part Number: MLG0603P33NHT000; Self-Resonant Frequency: 1.8GHz; Q Factor: 10@300MHz; Package Size: 0201; JLCPCB Basic Part: No; JLCPCB Part Number: C413894; Supplier 1: LCSC; Category: Inductors; Supplier Part Number 1: C413894; Tolerance: ±3%; Rated Current: 130mA; DC Resistance: 1.55Ω; RoHS: Yes; ComponentLink1Description: Datasheet; ComponentLink1URL: https://wmsc.lcsc.com/wmsc/upload/file/pdf/v2/lcsc/2304140030_TDK-MLG0603P33NHT000_C413894.pdf; ComponentLink2Description: JLCPCB Part URL; ComponentLink2URL: https://jlcpcb.com/partdetail/C413894; ComponentLink3Description: LCSC Part URL; ComponentLink3URL: https://lcsc.com/product-detail/Inductors-SMD_TDK-TDK-MLG0603P33NHT000_C413894.html
footprint IND-0201 (0201 (0603M) Inductor)
pins: 1, 2

## MLG0603P33NHTD25
designator L?  Inductance: 33nH
Inductor, 33nH, ±3%, 1.55Ω, 130mA, SMD 0201; Manufacturer: TDK; Manufacturer Part Number: MLG0603P33NHTD25; Self-Resonant Frequency: 2.4GHz; Q Factor: 10@300MHz; Package Size: 0201; JLCPCB Basic Part: No; JLCPCB Part Number: C404590; Supplier 1: LCSC; Category: Inductors; Supplier Part Number 1: C404590; Tolerance: ±3%; Rated Current: 130mA; DC Resistance: 1.55Ω; RoHS: Yes; ComponentLink1Description: Datasheet; ComponentLink1URL: https://wmsc.lcsc.com/wmsc/upload/file/pdf/v2/lcsc/2304140030_TDK-MLG0603P33NHTD25_C404590.pdf; ComponentLink2Description: JLCPCB Part URL; ComponentLink2URL: https://jlcpcb.com/partdetail/C404590; ComponentLink3Description: LCSC Part URL; ComponentLink3URL: https://lcsc.com/product-detail/Inductors-SMD_TDK-TDK-MLG0603P33NHTD25_C404590.html
footprint IND-0201 (0201 (0603M) Inductor)
pins: 1, 2

## MLG0603P36NHTZ10
designator L?  Inductance: 36nH
Inductor, 36nH, ±3%, 1.49Ω, 120mA, SMD 0201; Manufacturer: TDK; Manufacturer Part Number: MLG0603P36NHTZ10; Self-Resonant Frequency: 2.2GHz; Q Factor: 10@300MHz; Package Size: 0201; JLCPCB Basic Part: No; JLCPCB Part Number: C275200; Supplier 1: LCSC; Category: Inductors; Supplier Part Number 1: C275200; Tolerance: ±3%; Rated Current: 120mA; DC Resistance: 1.49Ω; RoHS: Yes; ComponentLink1Description: Datasheet; ComponentLink1URL: https://wmsc.lcsc.com/wmsc/upload/file/pdf/v2/lcsc/2304140030_TDK-MLG0603P36NHTZ10_C275200.pdf; ComponentLink2Description: JLCPCB Part URL; ComponentLink2URL: https://jlcpcb.com/partdetail/C275200; ComponentLink3Description: LCSC Part URL; ComponentLink3URL: https://lcsc.com/product-detail/Inductors-SMD_TDK-TDK-MLG0603P36NHTZ10_C275200.html
footprint IND-0201 (0201 (0603M) Inductor)
pins: 1, 2

## MLG0603P47NHT000
designator L?  Inductance: 47nH
Inductor, 47nH, ±3%, 2.18Ω, 110mA, SMD 0201; Manufacturer: TDK; Manufacturer Part Number: MLG0603P47NHT000; Self-Resonant Frequency: 1.6GHz; Q Factor: 10@300MHz; Package Size: 0201; JLCPCB Basic Part: No; JLCPCB Part Number: C433019; Supplier 1: LCSC; Category: Inductors; Supplier Part Number 1: C433019; Tolerance: ±3%; Rated Current: 110mA; DC Resistance: 2.18Ω; RoHS: Yes; ComponentLink1Description: Datasheet; ComponentLink1URL: https://wmsc.lcsc.com/wmsc/upload/file/pdf/v2/lcsc/2304140030_TDK-MLG0603P47NHT000_C433019.pdf; ComponentLink2Description: JLCPCB Part URL; ComponentLink2URL: https://jlcpcb.com/partdetail/C433019; ComponentLink3Description: LCSC Part URL; ComponentLink3URL: https://lcsc.com/product-detail/Inductors-SMD_TDK-TDK-MLG0603P47NHT000_C433019.html
footprint IND-0201 (0201 (0603M) Inductor)
pins: 1, 2

## MLG0603P56NJTZ10
designator L?  Inductance: 56nH
Inductor, 56nH, ±5%, 2.35Ω, 100mA, SMD 0201; Manufacturer: TDK; Manufacturer Part Number: MLG0603P56NJTZ10; Self-Resonant Frequency: 1.8GHz; Q Factor: 10@300MHz; Package Size: 0201; JLCPCB Basic Part: No; JLCPCB Part Number: C275232; Supplier 1: LCSC; Category: Inductors; Supplier Part Number 1: C275232; Tolerance: ±5%; Rated Current: 100mA; DC Resistance: 2.35Ω; RoHS: Yes; ComponentLink1Description: Datasheet; ComponentLink1URL: https://wmsc.lcsc.com/wmsc/upload/file/pdf/v2/lcsc/2304140030_TDK-MLG0603P56NJTZ10_C275232.pdf; ComponentLink2Description: JLCPCB Part URL; ComponentLink2URL: https://jlcpcb.com/partdetail/C275232; ComponentLink3Description: LCSC Part URL; ComponentLink3URL: https://lcsc.com/product-detail/Inductors-SMD_TDK-TDK-MLG0603P56NJTZ10_C275232.html
footprint IND-0201 (0201 (0603M) Inductor)
pins: 1, 2

## MLG0603P82NJTZ10
designator L?  Inductance: 82nH
Inductor, 82nH, ±5%, 2.71Ω, 80mA, SMD 0201; Manufacturer: TDK; Manufacturer Part Number: MLG0603P82NJTZ10; Self-Resonant Frequency: 1.5GHz; Q Factor: 9@300MHz; Package Size: 0201; JLCPCB Basic Part: No; JLCPCB Part Number: C275251; Supplier 1: LCSC; Category: Inductors; Supplier Part Number 1: C275251; Tolerance: ±5%; Rated Current: 80mA; DC Resistance: 2.71Ω; RoHS: Yes; ComponentLink1Description: Datasheet; ComponentLink1URL: https://wmsc.lcsc.com/wmsc/upload/file/pdf/v2/lcsc/2304140030_TDK-MLG0603P82NJTZ10_C275251.pdf; ComponentLink2Description: JLCPCB Part URL; ComponentLink2URL: https://jlcpcb.com/partdetail/C275251; ComponentLink3Description: LCSC Part URL; ComponentLink3URL: https://lcsc.com/product-detail/Inductors-SMD_TDK-TDK-MLG0603P82NJTZ10_C275251.html
footprint IND-0201 (0201 (0603M) Inductor)
pins: 1, 2

## MLG0603S3N9ST000
designator L?  Inductance: 3.9nH
Inductor, 3.9nH, 270mΩ, 300mA, SMD 0201; Manufacturer: TDK; Manufacturer Part Number: MLG0603S3N9ST000; Self-Resonant Frequency: 6.6GHz; Q Factor: 5@100MHz; Package Size: 0201; JLCPCB Basic Part: No; JLCPCB Part Number: C136219; Supplier 1: LCSC; Category: Inductors; Supplier Part Number 1: C136219; Rated Current: 300mA; DC Resistance: 270mΩ; RoHS: Yes; ComponentLink1Description: Datasheet; ComponentLink1URL: https://wmsc.lcsc.com/wmsc/upload/file/pdf/v2/lcsc/2304140030_TDK-MLG0603S3N9ST000_C136219.pdf; ComponentLink2Description: JLCPCB Part URL; ComponentLink2URL: https://jlcpcb.com/partdetail/C136219; ComponentLink3Description: LCSC Part URL; ComponentLink3URL: https://lcsc.com/product-detail/Inductors-SMD_TDK-TDK-MLG0603S3N9ST000_C136219.html
footprint IND-0201 (0201 (0603M) Inductor)
pins: 1, 2

## SCC0603C1N5BSP
designator L?  Inductance: 1.5nH
Inductor, 1.5nH, 120mΩ, 420mA, SMD 0201; Manufacturer: Sunltech Tech; Manufacturer Part Number: SCC0603C1N5BSP; Package Size: 0201; JLCPCB Basic Part: No; JLCPCB Part Number: C412055; Supplier 1: LCSC; Category: Inductors; Supplier Part Number 1: C412055; Rated Current: 420mA; DC Resistance: 120mΩ; RoHS: Yes; ComponentLink1Description: Datasheet; ComponentLink1URL: https://wmsc.lcsc.com/wmsc/upload/file/pdf/v2/lcsc/2304140030_Sunltech-Tech-SCC0603C1N5BSP_C412055.pdf; ComponentLink2Description: JLCPCB Part URL; ComponentLink2URL: https://jlcpcb.com/partdetail/C412055; ComponentLink3Description: LCSC Part URL; ComponentLink3URL: https://lcsc.com/product-detail/Inductors-SMD_Sunltech-Tech-Sunltech-Tech-SCC0603C1N5BSP_C412055.html
footprint IND-0201 (0201 (0603M) Inductor)
pins: 1, 2

## SCC0603C2N7BSP
designator L?  Inductance: 2.7nH
Inductor, 2.7nH, 220mΩ, 310mA, SMD 0201; Manufacturer: Sunltech Tech; Manufacturer Part Number: SCC0603C2N7BSP; Package Size: 0201; JLCPCB Basic Part: No; JLCPCB Part Number: C412059; Supplier 1: LCSC; Category: Inductors; Supplier Part Number 1: C412059; Rated Current: 310mA; DC Resistance: 220mΩ; RoHS: Yes; ComponentLink1Description: Datasheet; ComponentLink1URL: https://wmsc.lcsc.com/wmsc/upload/file/pdf/v2/lcsc/2304140030_Sunltech-Tech-SCC0603C2N7BSP_C412059.pdf; ComponentLink2Description: JLCPCB Part URL; ComponentLink2URL: https://jlcpcb.com/partdetail/C412059; ComponentLink3Description: LCSC Part URL; ComponentLink3URL: https://lcsc.com/product-detail/Inductors-SMD_Sunltech-Tech-Sunltech-Tech-SCC0603C2N7BSP_C412059.html
footprint IND-0201 (0201 (0603M) Inductor)
pins: 1, 2

## SCC0603C6N8JSP
designator L?  Inductance: 6.8nH
Inductor, 6.8nH, ±5%, 500mΩ, 200mA, SMD 0201; Manufacturer: Sunltech Tech; Manufacturer Part Number: SCC0603C6N8JSP; Package Size: 0201; JLCPCB Basic Part: No; JLCPCB Part Number: C412068; Supplier 1: LCSC; Category: Inductors; Supplier Part Number 1: C412068; Tolerance: ±5%; Rated Current: 200mA; DC Resistance: 500mΩ; RoHS: Yes; ComponentLink1Description: Datasheet; ComponentLink1URL: https://wmsc.lcsc.com/wmsc/upload/file/pdf/v2/lcsc/2304140030_Sunltech-Tech-SCC0603C6N8JSP_C412068.pdf; ComponentLink2Description: JLCPCB Part URL; ComponentLink2URL: https://jlcpcb.com/partdetail/C412068; ComponentLink3Description: LCSC Part URL; ComponentLink3URL: https://lcsc.com/product-detail/Inductors-SMD_Sunltech-Tech-Sunltech-Tech-SCC0603C6N8JSP_C412068.html
footprint IND-0201 (0201 (0603M) Inductor)
pins: 1, 2

## SCC0603C15NJSP
designator L?  Inductance: 15nH
Inductor, 15nH, ±5%, 850mΩ, 160mA, SMD 0201; Manufacturer: Sunltech Tech; Manufacturer Part Number: SCC0603C15NJSP; Package Size: 0201; JLCPCB Basic Part: No; JLCPCB Part Number: C412073; Supplier 1: LCSC; Category: Inductors; Supplier Part Number 1: C412073; Tolerance: ±5%; Rated Current: 160mA; DC Resistance: 850mΩ; RoHS: Yes; ComponentLink1Description: Datasheet; ComponentLink1URL: https://wmsc.lcsc.com/wmsc/upload/file/pdf/v2/lcsc/2304140030_Sunltech-Tech-SCC0603C15NJSP_C412073.pdf; ComponentLink2Description: JLCPCB Part URL; ComponentLink2URL: https://jlcpcb.com/partdetail/C412073; ComponentLink3Description: LCSC Part URL; ComponentLink3URL: https://lcsc.com/product-detail/Inductors-SMD_Sunltech-Tech-Sunltech-Tech-SCC0603C15NJSP_C412073.html
footprint IND-0201 (0201 (0603M) Inductor)
pins: 1, 2

## SCC0603C56NJSP
designator L?  Inductance: 56nH
Inductor, 56nH, ±5%, 2.8Ω, 80mA, SMD 0201; Manufacturer: Sunltech Tech; Manufacturer Part Number: SCC0603C56NJSP; Package Size: 0201; JLCPCB Basic Part: No; JLCPCB Part Number: C412080; Supplier 1: LCSC; Category: Inductors; Supplier Part Number 1: C412080; Tolerance: ±5%; Rated Current: 80mA; DC Resistance: 2.8Ω; RoHS: Yes; ComponentLink1Description: Datasheet; ComponentLink1URL: https://wmsc.lcsc.com/wmsc/upload/file/pdf/v2/lcsc/2304140030_Sunltech-Tech-SCC0603C56NJSP_C412080.pdf; ComponentLink2Description: JLCPCB Part URL; ComponentLink2URL: https://jlcpcb.com/partdetail/C412080; ComponentLink3Description: LCSC Part URL; ComponentLink3URL: https://lcsc.com/product-detail/Inductors-SMD_Sunltech-Tech-Sunltech-Tech-SCC0603C56NJSP_C412080.html
footprint IND-0201 (0201 (0603M) Inductor)
pins: 1, 2